# EAGLE library part KCPSC04-105 (library Kingbright_LEDs)
14-Segment LED Alphanumeric Display Module. Common Cathode 16 pin device.
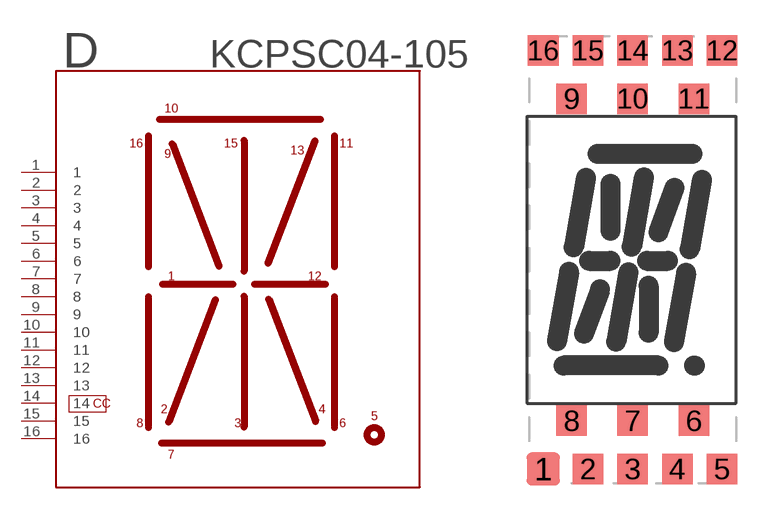
[diagram p0: symbol with the pads of 14-SEGMENT-LED; footprint 14-SEGMENT-LED]

Designator prefix D

## KCPSC04-105  [14-SEGMENT-LED]
1  1
2  2
3  3
4  4
5  5
6  6
7  7
8  8
9  9
10  10
11  11
12  12
13  13
14  14
15  15
16  16

## Footprint 14-SEGMENT-LED (pad centres in mm)
14 Segment LED package. Common Cathode, surface mount.
smd 1.4 x 1.4: 1 0,-17.8
smd 1.3 x 1.3: 2 1.9,-17.8; 3 3.8,-17.8; 4 5.7,-17.8; 5 7.6,-17.8; 6 6.4,-15.75; 7 3.8,-15.75; 8 1.2,-15.75; 9 1.2,-2.05; 10 3.8,-2.05; 11 6.4,-2.05; 12 7.6,0; 13 5.7,0; 14 3.8,0; 15 1.9,0; 16 0,0